# EAGLE library part I-02165_CY7C1041DV33 (library Akizuki)
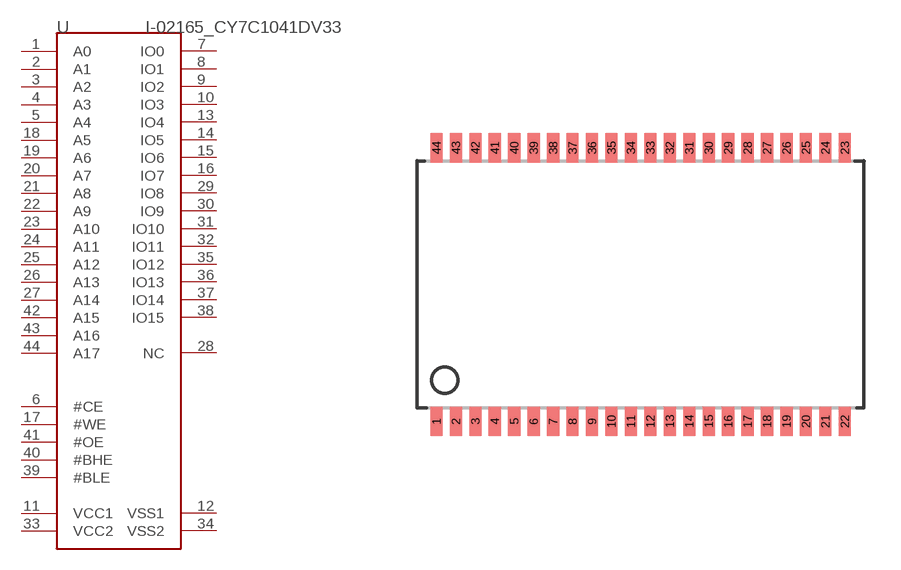
[diagram p17: symbol with the pads of TSOPII-Z44; footprint TSOPII-Z44]

Designator prefix U

## I-02165_CY7C1041DV33  [TSOPII-Z44]
1  A0
2  A1
3  A2
4  A3
5  A4
6  #CE
7  IO0
8  IO1
9  IO2
10  IO3
11  VCC1
12  VSS1
13  IO4
14  IO5
15  IO6
16  IO7
17  #WE
18  A5
19  A6
20  A7
21  A8
22  A9
23  A10
24  A11
25  A12
26  A13
27  A14
28  NC
29  IO8
30  IO9
31  IO10
32  IO11
33  VCC2
34  VSS2
35  IO12
36  IO13
37  IO14
38  IO15
39  #BLE
40  #BHE
41  #OE
42  A15
43  A16
44  A17

## Footprint TSOPII-Z44 (pad centres in mm)
44 PIN TSOP II Z44 Source: CYPRESS cy7c1049cv33_8.pdf
smd 0.5 x 1.2: 1 -8.4,-5.627; 2 -7.6,-5.627; 3 -6.8,-5.627; 4 -6,-5.627; 5 -5.2,-5.627; 6 -4.4,-5.627; 7 -3.6,-5.627; 8 -2.8,-5.627; 9 -2,-5.627; 10 -1.2,-5.627; 11 -0.4,-5.627; 12 0.4,-5.627; 13 1.2,-5.627; 14 2,-5.627; 15 2.8,-5.627; 16 3.6,-5.627; 17 4.4,-5.627; 18 5.2,-5.627; 19 6,-5.627; 20 6.8,-5.627; 21 7.6,-5.627; 22 8.4,-5.627; 23 8.4,5.627; 24 7.6,5.627; 25 6.8,5.627; 26 6,5.627; 27 5.2,5.627; 28 4.4,5.627; 29 3.6,5.627; 30 2.8,5.627; 31 2,5.627; 32 1.2,5.627; 33 0.4,5.627; 34 -0.4,5.627; 35 -1.2,5.627; 36 -2,5.627; 37 -2.8,5.627; 38 -3.6,5.627; 39 -4.4,5.627; 40 -5.2,5.627; 41 -6,5.627; 42 -6.8,5.627; 43 -7.6,5.627; 44 -8.4,5.627